# Altium integrated library ST Converter Serial to Parallel.IntLib: 1 symbol
Pins are listed as number, name and electrical type; pins without a type are passive.

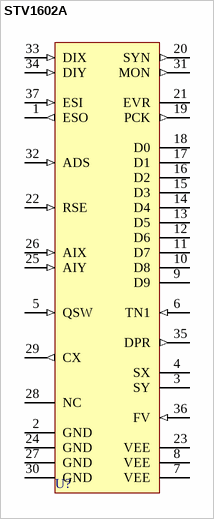
[diagram p0: symbol STV1602A]

## STV1602A
designator U?
Serial Interface Transmission Decoder; PackageDocument: 1994; Note: Make no connection to pin 28; Published: 24-Aug-2001; LatestRevisionDate: 6-Jun-2005; LatestRevisionNote: Stylized 3D Model Added.; DatasheetDocument: Dec-1992; PackageReference: PGA37; Publisher: Altium Limited; ComponentLink1Description: Manufacturer Link; ComponentLink1URL: http://www.st.com/
footprint PGA37 (PGA; 37 Leads; Body 25.5 x 25.5 mm; Plain Grid)
3D model STV1602A-PGA37 (PGA; 37 Leads; Body 25.5 x 25.5 mm; Plain Grid)
pins: 1 ESO (out), 2 GND (power), 3 SY (oe), 4 SX (oe), 5 QSW (in), 6 TN1 (in), 7 VEE (power), 8 VEE (power), 9 D9 (oe), 10 D8 (oe), 11 D7 (oe), 12 D6 (oe), 13 D5 (oe), 14 D4 (oe), 15 D3 (oe), 16 D2 (oe), 17 D1 (oe), 18 D0 (oe), 19 PCK (out), 20 SYN (out), 21 EVR (oe), 22 RSE (in), 23 VEE (power), 24 GND (power), 25 AIY (in), 26 AIX (in), 27 GND (power), 28 NC, 29 CX (out), 30 GND (power), 31 MON (out), 32 ADS (in), 33 DIX (in), 34 DIY (in), 35 DPR (out), 36 FV (in), 37 ESI (in)